# EAGLE library part MCP73831_8-DFN (library mcp73831)
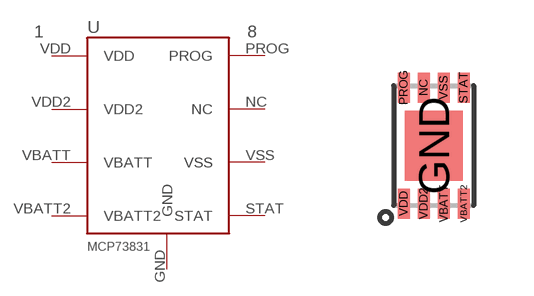
[diagram p0: symbol with the pads of 8-DFN-(2X3); footprint 8-DFN-(2X3)]

Designator prefix U

## MCP73831_8-DFN  [8-DFN-(2X3)]
GND  GND
NC  NC  pwr
PROG  PROG
STAT  STAT
VBATT  VBATT
VBATT2  VBATT2
VDD  VDD  pwr
VDD2  VDD2
VSS  VSS

## Footprint 8-DFN-(2X3) (pad centres in mm)
smd 1.45 x 1.75: GND 0,0
smd 0.3 x 0.75: NC -0.25,1.45; PROG -0.75,1.45; STAT 0.75,1.45; VBATT 0.25,-1.45; VBATT2 0.75,-1.45; VDD -0.75,-1.45; VDD2 -0.25,-1.45; VSS 0.25,1.45